# Altium schematic symbol library MicroUSBB.SchLib: 1 symbol
Pins are listed as number, name and electrical type; pins without a type are passive.

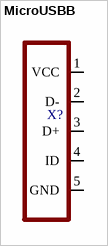
[diagram p0: symbol MicroUSBB]

## MicroUSBB
designator X?
pins: 1 VCC, 2 D-, 3 D+, 4 ID, 5 GND